# Altium schematic symbol library 3587.SchLib: 1 symbol
Pins are listed as number, name and electrical type; pins without a type are passive.

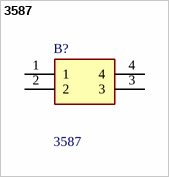
[diagram p0: symbol 3587]

## 3587
designator B?
Adafruit Accessories DotStar Micro LEDs (APA102 2020)- Smart SMD RGB LED - 100 pack; Manufacturer_Name: Keystone Electronics; Geometry.Height: 7mm; Manufacturer_Part_Number: 3587; Mouser Part Number: 485-3587; Mouser Price/Stock: https://www.mouser.com/Search/Refine.aspx?Keyword=485-3587; Arrow Part Number: 3587; Arrow Price/Stock: https://www.arrow.com/en/products/3587/keystone-electronics?utm_currency=USD&region=europe; Datasheet Link: https://componentsearchengine.com/Datasheets/1/3587.pdf
footprint 3587
pins: 1, 2, 3, 4